# Altium footprint library my_lib.PcbLib: 68 footprints (part 5 of 5)
Each footprint in its own frame and in the unit in brackets; x right, y up, seen from the top. Pads: shape width x height; smd on the part's side, far side on the other; paste and mask are expansions set on the pad; w line width, h text height; cw(c..) or ccw(c..) is an arc to the next point about the centre after c.
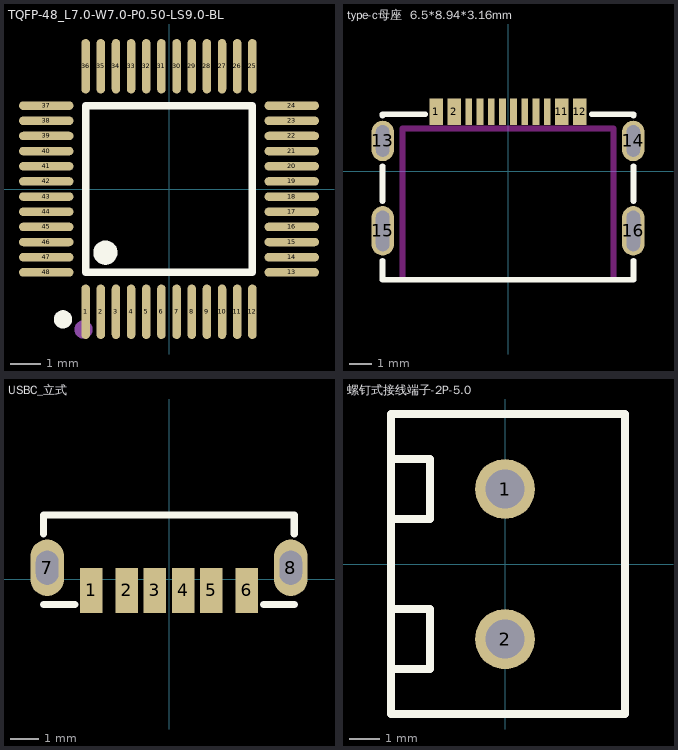
[diagram p4: the footprints below, top view; thin cyan lines are the x and y axes]

## TQFP-48_L7.0-W7.0-P0.50-LS9.0-BL [mm]
pads (48):
  oval 0.28x1.8 smd: 1(-2.75,-4.05) 2(-2.25,-4.05) 3(-1.75,-4.05) 4(-1.25,-4.05) 5(-0.75,-4.05) 6(-0.25,-4.05) 7(0.25,-4.05) 8(0.75,-4.05) 9(1.25,-4.05) 10(1.75,-4.05) 11(2.25,-4.05) 12(2.75,-4.05) 25(2.75,4.05) 26(2.25,4.05) 27(1.75,4.05) 28(1.25,4.05) 29(0.75,4.05) 30(0.25,4.05) 31(-0.25,4.05) 32(-0.75,4.05) 33(-1.25,4.05) 34(-1.75,4.05) 35(-2.25,4.05) 36(-2.75,4.05)
  oval 1.8x0.28 smd: 13(4.05,-2.75) 14(4.05,-2.25) 15(4.05,-1.75) 16(4.05,-1.25) 17(4.05,-0.75) 18(4.05,-0.25) 19(4.05,0.25) 20(4.05,0.75) 21(4.05,1.25) 22(4.05,1.75) 23(4.05,2.25) 24(4.05,2.75) 37(-4.05,2.75) 38(-4.05,2.25) 39(-4.05,1.75) 40(-4.05,1.25) 41(-4.05,0.75) 42(-4.05,0.25) 43(-4.05,-0.25) 44(-4.05,-0.75) 45(-4.05,-1.25) 46(-4.05,-1.75) 47(-4.05,-2.25) 48(-4.05,-2.75)
Top Overlay:
  lines w0.254: -2.75,-2.75 2.75,-2.75 2.75,2.75 -2.75,2.75 -2.75,-2.75
  lines w0.3: -3.5,-4.15 ccw(c-3.499,-4.3) -3.498,-4.15
  lines w0.4: -2.101,-1.9 ccw(c-2.098,-2.1) -2.095,-1.9
Mechanical 15:
  circle w0.3: c-2.822,-4.638 r0.15

## type-c母座  6.5*8.94*3.16mm [mm]
pads (16):
  rect 0.6x1.2 smd: 1(-3.2,2.65) 2(-2.4,2.65) 11(2.4,2.65) 12(3.2,2.65)
  rect 0.3x1.2 smd: 3(-1.75,2.65) 4(-1.25,2.65) 5(-0.75,2.65) 6(-0.25,2.65) 7(0.25,2.65) 8(0.75,2.65) 9(1.25,2.65) 10(1.75,2.65)
  oval 1x1.8 hole 0.6 slot 1.4 at 90 deg: 13(-5.575,1.35) 14(5.575,1.35)
  oval 1x2.2 hole 0.6 slot 1.8 at 90 deg: 15(-5.575,-2.65) 16(5.575,-2.65)
Top Overlay:
  lines w0.254: -5.588,-3.981 -5.588,-4.826 5.588,-4.826 5.588,-3.981 ; -5.588,-1.319 -5.588,0.219 ; -5.588,2.481 -5.588,2.54 -3.683,2.54 ; 3.731,2.54 5.588,2.54 5.588,2.481 ; 5.588,-1.319 5.588,0.219
Keep-Out Layer:
  lines w0.254: -4.699,-4.699 -4.699,1.905 4.699,1.905 4.699,-4.699

## USBC_立式 [mm]
pads (8):
  rect 0.8x1.6 smd: 1(-2.75,-0.4) 2(-1.5,-0.4) 3(-0.5,-0.4) 4(0.5,-0.4) 5(1.5,-0.4) 6(2.75,-0.4)
  oval 1.2x2 hole 0.8 slot 1.2 at 90 deg: 7(-4.32,0.4) 8(4.32,0.4)
Top Overlay:
  lines w0.254: -4.445,-0.908 -3.345,-0.908 ; -4.446,1.6 -4.446,2.267 4.444,2.267 4.444,1.6 ; 3.35,-0.908 4.45,-0.908

## 螺钉式接线端子-2P-5.0 [mm]
pads (2):
  round 2 hole 1.3: 1(0,2.501) 2(0,-2.501)
Top Overlay:
  lines w0.254: -3.8,-3.499 -2.5,-3.499 -2.5,-1.499 -3.8,-1.499 ; -3.8,1.501 -2.5,1.501 -2.5,3.501 -3.8,3.501 ; -3.8,-4.999 -3.8,5.001 0,5.001 4,5.001 4,-4.999 0,-4.999 -3.8,-4.999